# EAGLE library part TBP01R1-508-08BE (library TBP01R1-508-08BE)
2~24 Poles, Pluggable, Receptacle, Horizontal, 5.08 Pitch, Terminal Block Connector Source: Datasheet <https://www.sameskydevices.com/product/resource/supplyframepdf/tbp01r1-508.pdf>
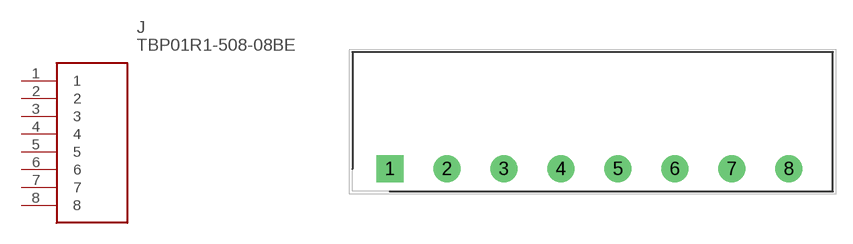
[diagram p0: symbol with the pads of SHDR8W100P0X508_1X8_4224X1200X; footprint SHDR8W100P0X508_1X8_4224X1200X]

Designator prefix J

## TBP01R1-508-08BE (Description: 2~24 Poles, Pluggable, Receptacle, Horizontal, 5.08 Pitch, Terminal Block Connector; Height: 8.9mm; Manufacturer_Name: Same Sky; Manufacturer_Part_Number: TBP01R1-508-08BE; Mouser_Part_Number: 490-TBP01R1-508-08BE; Mouser_Price-Stock: https://www.mouser.co.uk/ProductDetail/CUI-Devices/TBP01R1-508-08BE?qs=PzGy0jfpSMvxLRQvHckPeQ%3D%3D)  [SHDR8W100P0X508_1X8_4224X1200X]
1  1
2  2
3  3
4  4
5  5
6  6
7  7
8  8

## Footprint SHDR8W100P0X508_1X8_4224X1200X (pad centres in mm)
TBP01R1-508-08BE
drill 1.6 pad 2.4 square: 1 0,0
drill 1.6 pad 2.4: 2 5.08,0; 3 10.16,0; 4 15.24,0; 5 20.32,0; 6 25.4,0; 7 30.48,0; 8 35.56,0